# Altium schematic symbol library MSE312_SIMRACER.SchLib: 3 symbols
Pins are listed as number, name and electrical type; pins without a type are passive.

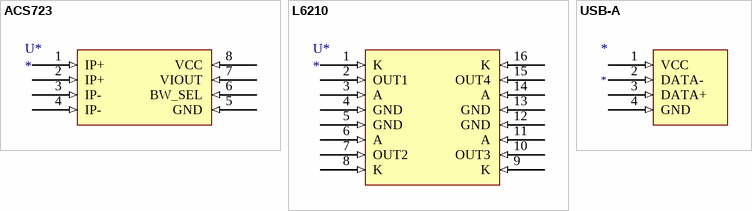
[diagram p0: symbols ACS723 to USB-A]

## ACS723
designator U*
footprint ACS723
pins: 1 IP+ (in), 2 IP+ (in), 3 IP- (in), 4 IP- (in), 5 GND (in), 6 BW_SEL (in), 7 VIOUT (in), 8 VCC (in)

## L6210
designator U*
footprint L6210 (SHOTTKY DIODE 4-CHANNEL BRIDGE)
pins: 1 K (in), 2 OUT1 (in), 3 A (in), 4 GND (in), 5 GND (in), 6 A (in), 7 OUT2 (in), 8 K (in), 9 K (in), 10 OUT3 (in), 11 A (in), 12 GND (in), 13 GND (in), 14 A (in), 15 OUT4 (in), 16 K (in)

## USB-A
designator *
footprint USB A
pins: 1 VCC (in), 2 DATA- (in), 3 DATA+ (in), 4 GND (in)